# EAGLE library part RS6-0505S (library RS6-0505S)
DC/DC Converter Isolated 5V 6W Recom Through Hole 6W Isolated DC-DC Converter, Vin 4.5 9 V dc Source: Datasheet <https://www.recom-power.com/pdf/Econoline/RS6.pdf>
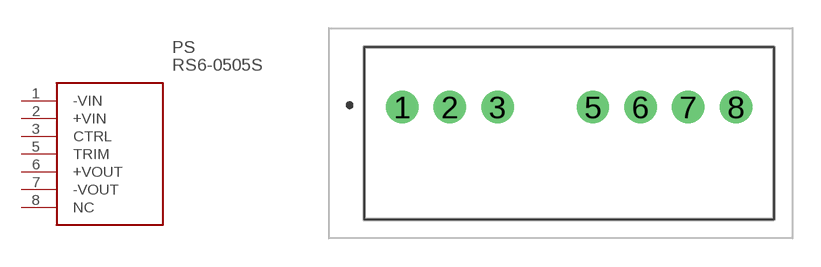
[diagram p0: symbol with the pads of RS60505S; footprint RS60505S]

Designator prefix PS

## RS6-0505S (Description: DC/DC Converter Isolated 5V 6W Recom Through Hole 6W Isolated DC-DC Converter, Vin 4.5 9 V dc; Height: 11.6mm; Manufacturer_Name: RECOM Power; Manufacturer_Part_Number: RS6-0505S; Mouser_Part_Number: 919-RS6-0505S; Mouser_Price-Stock: https://www.mouser.co.uk/ProductDetail/RECOM-Power/RS6-0505S?qs=FLBwGrBR9%252B3r5kgbzQWtZg%3D%3D)  [RS60505S]
1  -VIN
2  +VIN
3  CTRL
5  TRIM
6  +VOUT
7  -VOUT
8  NC  nc

## Footprint RS60505S (pad centres in mm)
RS6
drill 1.15 pad 1.725: 1 0,0; 2 2.54,0; 3 5.08,0; 5 10.16,0; 6 12.7,0; 7 15.24,0; 8 17.78,0